# Altium schematic symbol library schematicLib_Switch_Powerdetec.SchLib: 8 symbols
Pins are listed as number, name and electrical type; pins without a type are passive.

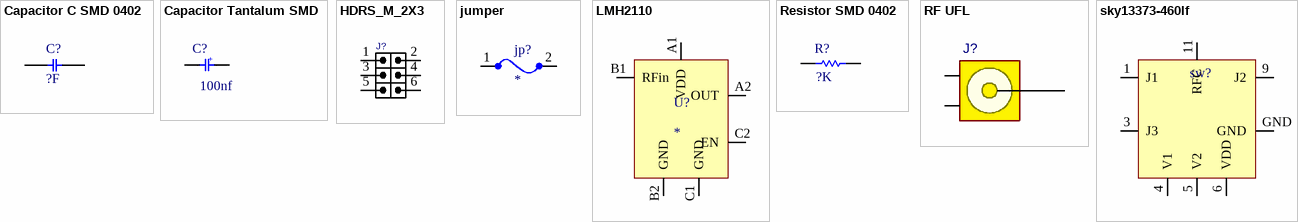
[diagram p0: symbols Capacitor C SMD 0402 to sky13373-460lf]

## Capacitor C SMD 0402
designator C?  value ?F  (hidden comment: Capacitor C SMD 0402)
Designed by:: MJKhodami
footprint C0402 (CHIP Capacitor, 1.0X0.5mm, 0402)
footprint C0402E (CHIP Capacitor, 1.0X0.5mm, 0402, EXPANDED PAD)
footprint C0402O (CHIP Capacitor, 1.0X0.5mm, 0402 OPTIMIZED)
pins: 1, 2

## Capacitor Tantalum SMD
designator C?  value 100nf
Capacitor Tantalum SMD; Designed by:: MJKhodami
footprint CAPP 1206 (3216X18L) Size A (Chip Capacitor, 2-Leads, Body 3.2x1.6mm, IPC High Density, chip Tantalum)
footprint Cap_A (Capacitor, SM Tantalum; Body 3.2 x 1.6 mm (LxW typ))
footprint Cap_B (Capacitor, SM Tantalum; Body 3.5 x 2.8 mm (LxW typ))
footprint Cap_C (Capacitor, SM Tantalum; Body 6.0 x 3.2 mm (LxW typ))
footprint Cap_D (Capacitor, SM Tantalum; Body 7.3 x 4.3 mm (LxW typ))
footprint Cap_E (Capacitor, SM Tantalum; Body 7.3 x 6.0 mm (LxW typ))
footprint Cap_R (Capacitor, SM Tantalum; Body 2.0 x 1.3 mm (LxW typ))
footprint Cap_V (Capacitor, SM Tantalum; Body 7.3 x 4.3 mm (LxW typ))
footprint Cap_X (Capacitor, SM Tantalum; Body 7.3 x 4.3 mm (LxW typ))
footprint C_TN_7361 (CAPACITOR, TAN V, 2924, 7361, 7.3X6.1mm)
footprint C_TN_7343 (CAPACITOR, TAN D, TAN E, TAN Y, TAN X, 7343P, 7.3X4.3mm)
footprint C_TN_6032 (CAPACITOR, TAN C, TAN F, TAN U, TAN L, 6032P, 6.0X3.2mm)
footprint C_TN_3528_1210 (CAPACITOR, TAN B, TAN H, TAN T, TAN M, 3528P, 1210P, 3.5X2.8mm)
pins: 1, 2
text: +

## HDRS_M_2X3
designator J?, comment HDRM_2X3  (value not drawn)
CONN, HEADER, Male, pitch: 2.54mm, 6POS, SMD; MANF_P#: MANF_PART#; Designed by:: MJKhodami; MANF: MANF; VALUE: HDRM_2X3; ComponentLink1Description: Our website:; ComponentLink1URL: https://www.spaceomid.com/
footprint HDRS_M_2X3 (Connector; Header; 3x2 Position, SMD)
pins: 1, 2, 3, 4, 5, 6

## jumper
designator jp?
footprint RES 0402 (1005X04L) (Chip Resistor, 2-Leads, Body 1.0x0.5mm, IPC High Density _ (0.031/0.063 W))
pins: 1, 2

## LMH2110
designator U?
- Wide Supply Range from 2.7 V to 5 V / - Logarithmic Root Mean Square Response
footprint BGA6N40P3X2_124X84X67N
pins: A1 VDD, A2 OUT, B1 RFin, B2 GND, C1 GND, C2 EN

## Resistor SMD 0402
designator R?  value ?K
Resistor SMD 0402; Designed by:: MJKhodami
footprint SMD-0402-RES
footprint RESC1005L (0402) (Chip Resistor, Body 1.1x0.5mm, IPC High Density)
footprint RESC1005M (0402) (Chip Resistor, Body 1.1x0.5mm, IPC Low Density)
footprint RESC1005N (0402) (Chip Resistor, Body 1.1x0.5mm, IPC Medium Density)
footprint RES 0402 (1005X04L) (Chip Resistor, 2-Leads, Body 1.0x0.5mm, IPC High Density _ (0.031/0.063 W))
footprint R0402 (CHIP Resistor 1/16 WATT, 1.0X0.5mm, 0402, 1005)
footprint R0402E (CHIP Resistor 1/16 WATT, 1.0X0.5mm, EXPANDED PAD)
footprint R0402O (0402 Optimized for place close together)
pins: 1, 2
1 alternate drawing of the same symbol

## RF UFL
designator J?, comment UFL  (value not drawn)
CONN, RF, U.FL, STRAIGHT, Ultra Miniature Coaxial; Designed by:: MJKhodami; ComponentLink1Description: Our Website:; ComponentLink1URL: https://www.spaceomid.com/
footprint UFL (CONN RF, COAX UP, U.FL-R-SMT-1 2.8x2.8mm)
pins: 1 SIG, 2 G1, 3 G2

## sky13373-460lf
designator sw?
Broadband frequency range: 0.1 to 8.0 GHz / • Low insertion loss: 0.45 dB @ 2.5 GHz, 0.65 dB @ 7.125 GHz / • High isolation: 30 dB up to 2.5 GHz / • No external DC blocking capacitors required / • Positive low voltage control: VCTL = 1.65 to 3.00 V, / VDD = 2.5 to 4.8 V / • Small, QFN (12-pin, 2 x 2 mm) package / (MSL1, 260 °C per JEDEC J-STD-020)
footprint QFN50P200X200X65-13N
footprint QFN50P200X200X65-13N - newdesig
pins: 1 J1, 3 J3, 4 V1, 5 V2, 6 VDD, 9 J2, 11 RFC, GND